# Altium schematic symbol library BL2553.SchLib: 1 symbol
Pins are listed as number, name and electrical type; pins without a type are passive.

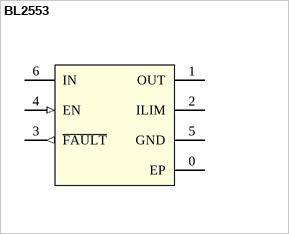
[diagram p0: symbol BL2553]

## BL2553
designator U?
The BL2553 is a load switch which provides full protection to systems
pins: 0 EP, 1 OUT (power), 2 ILIM, 3 ~{FAULT} (out), 4 EN (in), 5 GND, 6 IN (power)